# EAGLE library part SN74LVC1G374-DCK (library zz-upenn 2)
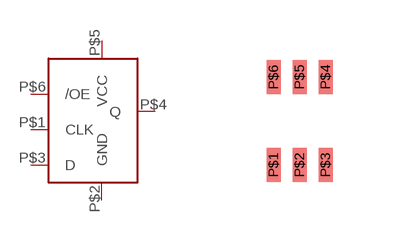
[diagram p21: symbol with the pads of DCK; footprint DCK]

Designator prefix -

## SN74LVC1G374-DCK  [DCK]
P$1  CLK
P$2  GND
P$3  D
P$4  Q
P$5  VCC
P$6  /OE

## Footprint DCK (pad centres in mm)
smd 0.35 x 0.85: P$1 -0.65,-1.1; P$2 0,-1.1; P$3 0.65,-1.1; P$4 0.65,1.1; P$5 0,1.1; P$6 -0.65,1.1